# EAGLE library part CC2590RGVT (library C3-Ti)
Low Power 2.4-GHz RF Front End
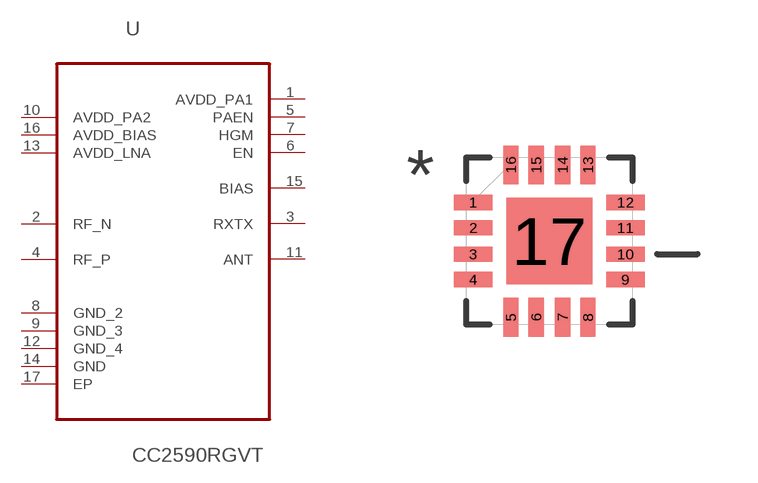
[diagram p1: symbol with the pads of QFN65P400X400X100-17N; footprint QFN65P400X400X100-17N]

Designator prefix U

## CC2590RGVT (MPN: CC2590RGVT; PACKAGE: QFN-16; SUPPLIER: Texas Instruments)  [QFN65P400X400X100-17N]
1  AVDD_PA1  pwr
2  RF_N  pas
3  RXTX
4  RF_P  pas
5  PAEN  in
6  EN  in
7  HGM  in
8  GND_2  pas
9  GND_3  pas
10  AVDD_PA2  pwr
11  ANT  pas
12  GND_4  pas
13  AVDD_LNA  pwr
14  GND  pas
15  BIAS  in
16  AVDD_BIAS  pwr
17  EP  pas

## Footprint QFN65P400X400X100-17N (pad centres in mm)
smd 0.965 x 0.381: 1 -1.905,0.965; 2 -1.905,0.33; 3 -1.905,-0.33; 4 -1.905,-0.965; 9 1.905,-0.965; 10 1.905,-0.33; 11 1.905,0.33; 12 1.905,0.965
smd 0.381 x 0.965: 5 -0.965,-1.905; 6 -0.33,-1.905; 7 0.33,-1.905; 8 0.965,-1.905; 13 0.965,1.905; 14 0.33,1.905; 15 -0.33,1.905; 16 -0.965,1.905
smd 2.159 x 2.159: 17 0,0